# EAGLE library part TPIC6596 (library tpic)
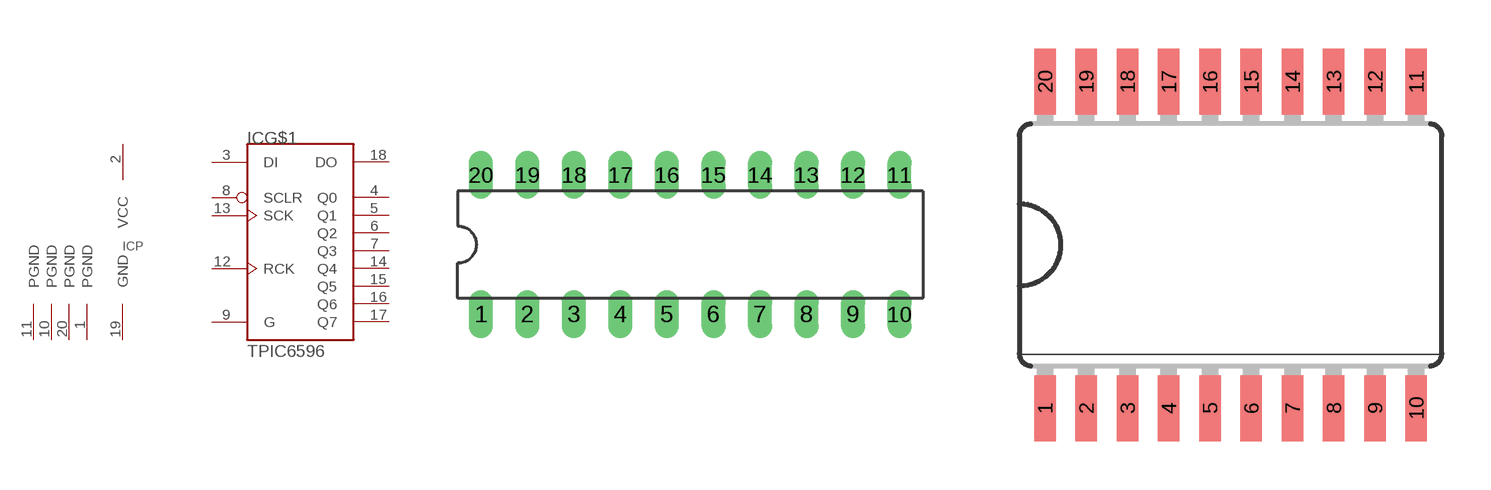
[diagram p4: symbol with the pads of DIL20; footprints DIL20, SO20W]

Designator prefix IC; gates G$1=595-596 P=VCC-GND-AN

## TPIC6596N  [DIL20]
1  P:PGND  pwr
2  P:VCC  pwr
3  G$1:DI  in
4  G$1:Q0  oc
5  G$1:Q1  oc
6  G$1:Q2  oc
7  G$1:Q3  oc
8  G$1:SCLR  in
9  G$1:G  in
10  P:PGND  pwr
11  P:PGND  pwr
12  G$1:RCK  in
13  G$1:SCK  in
14  G$1:Q4  oc
15  G$1:Q5  oc
16  G$1:Q6  oc
17  G$1:Q7  oc
18  G$1:DO  out
19  P:GND  pwr
20  P:PGND  pwr

## TPIC6596DW  [SO20W]
Pads as for DIL20

## Footprint DIL20 (pad centres in mm)
Dual In Line Package
drill 0.813 long: 1 -11.43,-3.81; 2 -8.89,-3.81; 3 -6.35,-3.81; 4 -3.81,-3.81; 5 -1.27,-3.81; 6 1.27,-3.81; 7 3.81,-3.81; 8 6.35,-3.81; 9 8.89,-3.81; 10 11.43,-3.81; 11 11.43,3.81; 12 8.89,3.81; 13 6.35,3.81; 14 3.81,3.81; 15 1.27,3.81; 16 -1.27,3.81; 17 -3.81,3.81; 18 -6.35,3.81; 19 -8.89,3.81; 20 -11.43,3.81

## Footprint SO20W (pad centres in mm)
Wide Small Outline package 300 mil
smd 0.66 x 2.032: 1 -5.715,-5.029; 2 -4.445,-5.029; 3 -3.175,-5.029; 4 -1.905,-5.029; 5 -0.635,-5.029; 6 0.635,-5.029; 7 1.905,-5.029; 8 3.175,-5.029; 9 4.445,-5.029; 10 5.715,-5.029; 11 5.715,5.029; 12 4.445,5.029; 13 3.175,5.029; 14 1.905,5.029; 15 0.635,5.029; 16 -0.635,5.029; 17 -1.905,5.029; 18 -3.175,5.029; 19 -4.445,5.029; 20 -5.715,5.029